# Altium integrated library Analog Devices Data Converters Analog-to-Digital Converters.IntLib: 2400 symbols (part 141 of 338)
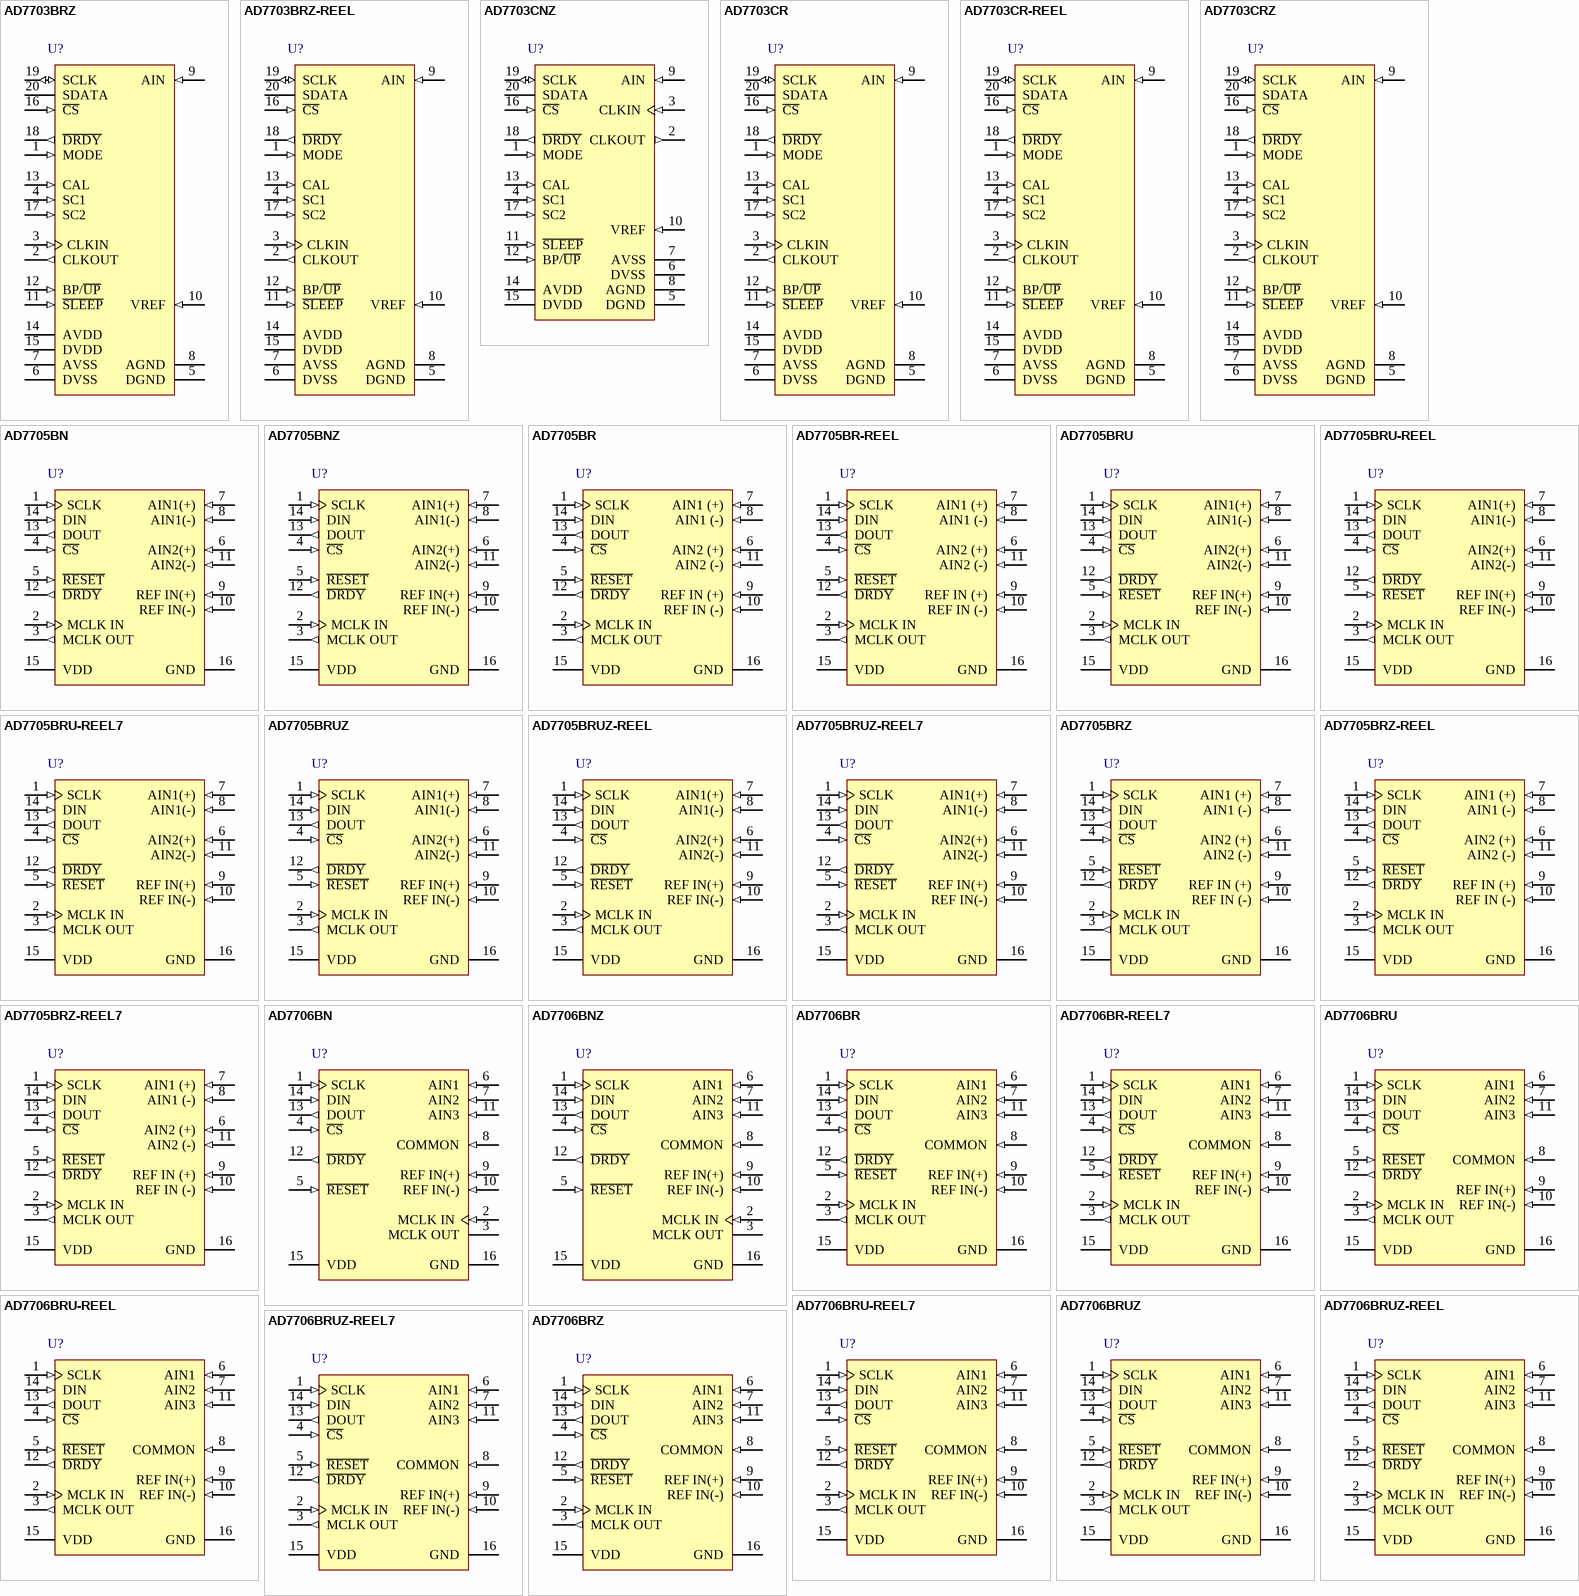
[diagram p236: symbols AD7703BRZ to AD7706BRZ]

## AD7703CNZ
designator U?
Single 20-Bit Analog-to-Digital Converter with Serial, SPI Interface, LC2MOS, 4KSPS, 0 to +70 degC, N-20, Pb-Free, Tube; Part Number: AD7703; Manufacturer: Analog Devices; Resolution (Bits): 20; Channels: 1; Throughput Rate (SPS): 4K; Interface: Ser, SPI; DatasheetVersion: Rev.E; PackageVersion: 070706-A; PackageReference: N-20; PackageDescription: 20-Lead Plastic Dual In-Line Package [PDIP] Narrow Body; RoHS: Y; Packing: Tube; Mounting Technology: Through-hole; Code_JEDEC: MS-001; ComponentLink1Description: Manufacturer URL; ComponentLink1URL: http://www.analog.com/en/index.html; ComponentLink2Description: Datasheet; ComponentLink2URL: http://www.analog.com/static/imported-files/data_sheets/AD7703.pdf; ComponentLink3Description: Package Specification; ComponentLink3URL: http://www.analog.com/static/imported-files/packages/50601349676519N_20.pdf; ComponentLink4Description: Product URL; ComponentLink4URL: http://www.analog.com/en/analog-to-digital-converters/ad-converters/ad7703/products/product.html
footprint N-20 (DIP, 20-Leads, Row Spacing 7.62mm, Pitch 2.54mm, Body 25.9x6.6mm)
pins: 1 MODE (in) "Selects the Serial Interface Mode. If MODE is tied to DGND, the Synchronous External Clocking (SEC) mode is selected. SCLK is configured as an input, and the output appears without formatting, the MSB coming first. If MODE (See Datasheet)", 2 CLKOUT (out) "Clock Output to Generate an Internal Master Clock by Connecting a Crystal between CLKOUT and CLKIN.If an external clock is used, CLKOUT is not connected.", 3 CLKIN (in) "Clock Input for External Clock.", 4 SC1 (in) "System Calibration Pins. The state of these pins, when CAL is taken high, determines the type of calibration performed.", 5 DGND (power) "Digital Ground. Ground reference for all digital signals.", 6 DVSS (power) "Digital Negative Supply, -5 V Nominal.", 7 AVSS (power) "Analog Negative Supply, -5 V Nominal.", 8 AGND (power) "Analog Ground. Ground reference for all analog signals.", 9 AIN (in) "Analog Input.", 10 VREF (in) "Voltage Reference Input, 2.5 V Nominal. This determines the value of positive full scale in the Unipolar mode and the value of both positive and negative full scale in the Bipolar mode.", 11 ~{SLEEP} (in) "Sleep Mode Pin. When this pin is taken low, the AD7703 goes into a low power mode with typically 10 µW power consumption.", 12 BP/~{UP} (in) "Bipolar/Unipolar Mode Pin. When this pin is low, the AD7703 is configured for a unipolar input range going from AGND to VREF. When Pin 12 is high, the AD7703 is configured for a bipolar input range, +/-VREF.", 13 CAL (in) "Calibration Mode Pin. When CAL is taken high for more than four cycles, the AD7703 is reset and performs a calibration cycle when CAL is brought low again. The CAL pin can also be used as a strobe to synchronize the (See Datasheet)", 14 AVDD (power) "Analog Positive Supply, 5 V Nominal.", 15 DVDD (power) "Digital Positive Supply, 5 V Nominal.", 16 ~{CS} (in) "Chip Select Input. When C\S\ is brought low, the AD7703 will begin to transmit serial data in a format determined by the state of the MODE pin.", 17 SC2 (in) "System Calibration Pins. The state of these pins, when CAL is taken high, determines the type of calibration performed.", 18 ~{DRDY} (out) "Data Ready Output. D\R\D\Y\ is low when valid data is available in the output register. It goes high after transmission of a word is completed. It also goes high for four clock cycles when a new data-word is being loaded into (See Datasheet)", 19 SCLK (io) "Serial Clock Input/Output. The SCLK pin is configured as an input or output, dependent on the type of serial data transmission that has been selected by the MODE pin. When configured as an output in the Synchronous (See Datasheet)", 20 SDATA (hiz) "Serial Data Output. The AD7703’s output data is available at this pin as a 20-bit serial word."

## AD7703CR
designator U?
Single 20-Bit Analog-to-Digital Converter with Serial, SPI Interface, LC2MOS, 4KSPS, -40 to +85 degC, RW-20, Tube; Part Number: AD7703; Manufacturer: Analog Devices; Resolution (Bits): 20; Channels: 1; Throughput Rate (SPS): 4K; Interface: Ser, SPI; DatasheetVersion: Rev.E; PackageVersion: 060706-A; PackageReference: RW-20; PackageDescription: 20-Lead Standard Small Outline Package [SOIC_W] Wide Body; RoHS: N; Packing: Tube; Mounting Technology: Surface Mount; Code_JEDEC: MS-013-AC; ComponentLink1Description: Manufacturer URL; ComponentLink1URL: http://www.analog.com/en/index.html; ComponentLink2Description: Datasheet; ComponentLink2URL: http://www.analog.com/static/imported-files/data_sheets/AD7703.pdf; ComponentLink3Description: Package Specification; ComponentLink3URL: http://www.analog.com/static/imported-files/packages/233848RW_20.pdf; ComponentLink4Description: Product URL; ComponentLink4URL: http://www.analog.com/en/analog-to-digital-converters/ad-converters/ad7703/products/product.html
footprint RW-20_N (SOIC, 20-Leads, Body 12.8x7.5mm, Pitch 1.27mm, IPC Medium Density)
footprint RW-20_L (SOIC, 20-Leads, Body 12.8x7.5mm, Pitch 1.27mm, IPC High Density)
footprint RW-20_M (SOIC, 20-Leads, Body 12.8x7.5mm, Pitch 1.27mm, IPC Low Density)
pins: 1 MODE (in) "Selects the Serial Interface Mode. If MODE is tied to DGND, the Synchronous External Clocking (SEC) mode is selected. SCLK is configured as an input, and the output appears without formatting, the MSB coming first. If MODE (See Datasheet)", 2 CLKOUT (out) "Clock Output to Generate an Internal Master Clock by Connecting a Crystal between CLKOUT and CLKIN.If an external clock is used, CLKOUT is not connected.", 3 CLKIN (in) "Clock Input for External Clock.", 4 SC1 (in) "System Calibration Pins. The state of these pins, when CAL is taken high, determines the type of calibration performed.", 5 DGND (power) "Digital Ground. Ground reference for all digital signals.", 6 DVSS (power) "Digital Negative Supply, -5 V Nominal.", 7 AVSS (power) "Analog Negative Supply, -5 V Nominal.", 8 AGND (power) "Analog Ground. Ground reference for all analog signals.", 9 AIN (in) "Analog Input.", 10 VREF (in) "Voltage Reference Input, 2.5 V Nominal. This determines the value of positive full scale in the Unipolar mode and the value of both positive and negative full scale in the Bipolar mode.", 11 ~{SLEEP} (in) "Sleep Mode Pin. When this pin is taken low, the AD7703 goes into a low power mode with typically 10 uW power consumption.", 12 BP/~{UP} (in) "Bipolar/Unipolar Mode Pin. When this pin is low, the AD7703 is configured for a unipolar input range going from AGND to VREF. When Pin 12 is high, the AD7703 is configured for a bipolar input range, +/-VREF.", 13 CAL (in) "Calibration Mode Pin. When CAL is taken high for more than four cycles, the AD7703 is reset and performs a calibration cycle when CAL is brought low again. The CAL pin can also be used as a strobe to synchronize the (See Datasheet)", 14 AVDD (power) "Analog Positive Supply, 5 V Nominal.", 15 DVDD (power) "Digital Positive Supply, 5 V Nominal.", 16 ~{CS} (in) "Chip Select Input. When C\S\ is brought low, the AD7703 will begin to transmit serial data in a format determined by the state of the MODE pin.", 17 SC2 (in) "System Calibration Pins. The state of these pins, when CAL is taken high, determines the type of calibration performed.", 18 ~{DRDY} (out) "Data Ready Output. D\R\D\Y\ is low when valid data is available in the output register. It goes high after transmission of a word is completed. It also goes high for four clock cycles when a new data-word is being loaded (See Datasheet)", 19 SCLK (io) "Serial Clock Input/Output. The SCLK pin is configured as an input or output, dependent on the type of serial data transmission that has been selected by the MODE pin. When configured as an output in the Synchronous (See Datasheet)", 20 SDATA (hiz) "Serial Data Output. The AD7703's output data is available at this pin as a 20-bit serial word."

## AD7703CR-REEL
designator U?
Single 20-Bit Analog-to-Digital Converter with Serial, SPI Interface, LC2MOS, 4KSPS, -40 to +85 degC, RW-20, Reel; Part Number: AD7703; Manufacturer: Analog Devices; Resolution (Bits): 20; Channels: 1; Throughput Rate (SPS): 4K; Interface: Ser, SPI; DatasheetVersion: Rev.E; PackageVersion: 060706-A; PackageReference: RW-20; PackageDescription: 20-Lead Standard Small Outline Package [SOIC_W] Wide Body; RoHS: N; Packing: Reel; Mounting Technology: Surface Mount; Code_JEDEC: MS-013-AC; ComponentLink1Description: Manufacturer URL; ComponentLink1URL: http://www.analog.com/en/index.html; ComponentLink2Description: Datasheet; ComponentLink2URL: http://www.analog.com/static/imported-files/data_sheets/AD7703.pdf; ComponentLink3Description: Package Specification; ComponentLink3URL: http://www.analog.com/static/imported-files/packages/233848RW_20.pdf; ComponentLink4Description: Product URL; ComponentLink4URL: http://www.analog.com/en/analog-to-digital-converters/ad-converters/ad7703/products/product.html
footprint RW-20_N (SOIC, 20-Leads, Body 12.8x7.5mm, Pitch 1.27mm, IPC Medium Density)
footprint RW-20_L (SOIC, 20-Leads, Body 12.8x7.5mm, Pitch 1.27mm, IPC High Density)
footprint RW-20_M (SOIC, 20-Leads, Body 12.8x7.5mm, Pitch 1.27mm, IPC Low Density)
pins: 1 MODE (in) "Selects the Serial Interface Mode. If MODE is tied to DGND, the Synchronous External Clocking (SEC) mode is selected. SCLK is configured as an input, and the output appears without formatting, the MSB coming first. If MODE (See Datasheet)", 2 CLKOUT (out) "Clock Output to Generate an Internal Master Clock by Connecting a Crystal between CLKOUT and CLKIN.If an external clock is used, CLKOUT is not connected.", 3 CLKIN (in) "Clock Input for External Clock.", 4 SC1 (in) "System Calibration Pins. The state of these pins, when CAL is taken high, determines the type of calibration performed.", 5 DGND (power) "Digital Ground. Ground reference for all digital signals.", 6 DVSS (power) "Digital Negative Supply, -5 V Nominal.", 7 AVSS (power) "Analog Negative Supply, -5 V Nominal.", 8 AGND (power) "Analog Ground. Ground reference for all analog signals.", 9 AIN (in) "Analog Input.", 10 VREF (in) "Voltage Reference Input, 2.5 V Nominal. This determines the value of positive full scale in the Unipolar mode and the value of both positive and negative full scale in the Bipolar mode.", 11 ~{SLEEP} (in) "Sleep Mode Pin. When this pin is taken low, the AD7703 goes into a low power mode with typically 10 uW power consumption.", 12 BP/~{UP} (in) "Bipolar/Unipolar Mode Pin. When this pin is low, the AD7703 is configured for a unipolar input range going from AGND to VREF. When Pin 12 is high, the AD7703 is configured for a bipolar input range, +/-VREF.", 13 CAL (in) "Calibration Mode Pin. When CAL is taken high for more than four cycles, the AD7703 is reset and performs a calibration cycle when CAL is brought low again. The CAL pin can also be used as a strobe to synchronize the (See Datasheet)", 14 AVDD (power) "Analog Positive Supply, 5 V Nominal.", 15 DVDD (power) "Digital Positive Supply, 5 V Nominal.", 16 ~{CS} (in) "Chip Select Input. When C\S\ is brought low, the AD7703 will begin to transmit serial data in a format determined by the state of the MODE pin.", 17 SC2 (in) "System Calibration Pins. The state of these pins, when CAL is taken high, determines the type of calibration performed.", 18 ~{DRDY} (out) "Data Ready Output. D\R\D\Y\ is low when valid data is available in the output register. It goes high after transmission of a word is completed. It also goes high for four clock cycles when a new data-word is being loaded (See Datasheet)", 19 SCLK (io) "Serial Clock Input/Output. The SCLK pin is configured as an input or output, dependent on the type of serial data transmission that has been selected by the MODE pin. When configured as an output in the Synchronous (See Datasheet)", 20 SDATA (hiz) "Serial Data Output. The AD7703's output data is available at this pin as a 20-bit serial word."

## AD7703CRZ
designator U?
Single 20-Bit Analog-to-Digital Converter with Serial, SPI Interface, LC2MOS, 4KSPS, -40 to +85 degC, RW-20, Pb-Free, Tube; Part Number: AD7703; Manufacturer: Analog Devices; Resolution (Bits): 20; Channels: 1; Throughput Rate (SPS): 4K; Interface: Ser, SPI; DatasheetVersion: Rev.E; PackageVersion: 060706-A; PackageReference: RW-20; PackageDescription: 20-Lead Standard Small Outline Package [SOIC_W] Wide Body; RoHS: Y; Packing: Tube; Mounting Technology: Surface Mount; Code_JEDEC: MS-013-AC; ComponentLink1Description: Manufacturer URL; ComponentLink1URL: http://www.analog.com/en/index.html; ComponentLink2Description: Datasheet; ComponentLink2URL: http://www.analog.com/static/imported-files/data_sheets/AD7703.pdf; ComponentLink3Description: Package Specification; ComponentLink3URL: http://www.analog.com/static/imported-files/packages/233848RW_20.pdf; ComponentLink4Description: Product URL; ComponentLink4URL: http://www.analog.com/en/analog-to-digital-converters/ad-converters/ad7703/products/product.html
footprint RW-20_N (SOIC, 20-Leads, Body 12.8x7.5mm, Pitch 1.27mm, IPC Medium Density)
footprint RW-20_L (SOIC, 20-Leads, Body 12.8x7.5mm, Pitch 1.27mm, IPC High Density)
footprint RW-20_M (SOIC, 20-Leads, Body 12.8x7.5mm, Pitch 1.27mm, IPC Low Density)
pins: 1 MODE (in) "Selects the Serial Interface Mode. If MODE is tied to DGND, the Synchronous External Clocking (SEC) mode is selected. SCLK is configured as an input, and the output appears without formatting, the MSB coming first. If MODE (See Datasheet)", 2 CLKOUT (out) "Clock Output to Generate an Internal Master Clock by Connecting a Crystal between CLKOUT and CLKIN.If an external clock is used, CLKOUT is not connected.", 3 CLKIN (in) "Clock Input for External Clock.", 4 SC1 (in) "System Calibration Pins. The state of these pins, when CAL is taken high, determines the type of calibration performed.", 5 DGND (power) "Digital Ground. Ground reference for all digital signals.", 6 DVSS (power) "Digital Negative Supply, -5 V Nominal.", 7 AVSS (power) "Analog Negative Supply, -5 V Nominal.", 8 AGND (power) "Analog Ground. Ground reference for all analog signals.", 9 AIN (in) "Analog Input.", 10 VREF (in) "Voltage Reference Input, 2.5 V Nominal. This determines the value of positive full scale in the Unipolar mode and the value of both positive and negative full scale in the Bipolar mode.", 11 ~{SLEEP} (in) "Sleep Mode Pin. When this pin is taken low, the AD7703 goes into a low power mode with typically 10 uW power consumption.", 12 BP/~{UP} (in) "Bipolar/Unipolar Mode Pin. When this pin is low, the AD7703 is configured for a unipolar input range going from AGND to VREF. When Pin 12 is high, the AD7703 is configured for a bipolar input range, +/-VREF.", 13 CAL (in) "Calibration Mode Pin. When CAL is taken high for more than four cycles, the AD7703 is reset and performs a calibration cycle when CAL is brought low again. The CAL pin can also be used as a strobe to synchronize the (See Datasheet)", 14 AVDD (power) "Analog Positive Supply, 5 V Nominal.", 15 DVDD (power) "Digital Positive Supply, 5 V Nominal.", 16 ~{CS} (in) "Chip Select Input. When C\S\ is brought low, the AD7703 will begin to transmit serial data in a format determined by the state of the MODE pin.", 17 SC2 (in) "System Calibration Pins. The state of these pins, when CAL is taken high, determines the type of calibration performed.", 18 ~{DRDY} (out) "Data Ready Output. D\R\D\Y\ is low when valid data is available in the output register. It goes high after transmission of a word is completed. It also goes high for four clock cycles when a new data-word is being loaded (See Datasheet)", 19 SCLK (io) "Serial Clock Input/Output. The SCLK pin is configured as an input or output, dependent on the type of serial data transmission that has been selected by the MODE pin. When configured as an output in the Synchronous (See Datasheet)", 20 SDATA (hiz) "Serial Data Output. The AD7703's output data is available at this pin as a 20-bit serial word."

## AD7705BN
designator U?
Dual 16-Bit Sigma-Delta Analog-to-Digital Converter with Serial, SPI Interface, 1 mW, 3 V / 5 V, 500SPS, -40 to +85 degC, N-16, Tube; Part Number: AD7705; Manufacturer: Analog Devices; Resolution (Bits): 16; Channels: 2; Throughput Rate (SPS): 500; Interface: Ser, SPI; DatasheetVersion: Rev.C; PackageVersion: 070706-A; PackageReference: N-16; PackageDescription: 16-Lead Plastic Dual In-Line Package [PDIP] Narrow Body; RoHS: N; Packing: Tube; Mounting Technology: Through-hole; Code_JEDEC: MS-001; ComponentLink1Description: Manufacturer URL; ComponentLink1URL: http://www.analog.com/en/index.html; ComponentLink2Description: Datasheet; ComponentLink2URL: http://www.analog.com/static/imported-files/data_sheets/AD7705_7706.pdf; ComponentLink3Description: Package Specification; ComponentLink3URL: http://www.analog.com/static/imported-files/packages/44768431550332N_16.pdf; ComponentLink4Description: Product URL; ComponentLink4URL: http://www.analog.com/en/analog-to-digital-converters/ad-converters/ad7705/products/product.html
footprint N-16 (DIP, 16-Leads, Row Spacing 7.62mm, Pitch 2.54mm, Body 20.1x6.6mm)
pins: 1 SCLK (in) "Serial Clock. An external serial clock is applied to the Schmitt-triggered logic input to access serial data from the AD7705/AD7706. This serial clock can be a continuous clock with all data transmitted in a continuous train (See Datasheet)", 2 MCLK IN (in) "Master Clock Signal. This can be provided in the form of a crystal/resonator or external clock. A crystal/resonator can be tied across the Pin MCLK IN and Pin MCLK OUT. Alternatively, the MCLK IN pin can be driven with a (See Datasheet)", 3 MCLK OUT (out) "When the master clock for these devices is a crystal/resonator, the crystal/resonator is connected between Pin MCLK IN and Pin MCLK OUT. If an external clock is applied to Pin MCLK IN, Pin MCLK OUT provides an inverted clock (See Datasheet)", 4 ~{CS} (in) "Chip Select. Active low logic input used to select the AD7705/AD7706. With this input hardwired low, the AD7705/AD7706 can operate in its 3-wire interface mode with Pin SCLK, Pin DIN, and Pin DOUT used to interface to the (See Datasheet)", 5 ~{RESET} (in) "Logic Input. Active low input that resets the control logic, interface logic, calibration coefficients, digital filter, and analog modulator of the parts to power-on status.", 6 AIN2(+) (in) "Positive Input of the Differential Analog Input Pair AIN2(+)/AIN2(-) for AD7705. Channel 1 for AD7706.", 7 AIN1(+) (in) "Positive Input of the Differential Analog Input Pair AIN1(+)/AIN1(-) for AD7705. Channel 2 for AD7706.", 8 AIN1(-) (in) "Negative Input of the Differential Analog Input Pair AIN1(+)/AIN1(-) for AD7705. COMMON input for AD7706 with Channel 1, Channel 2, and Channel 3 referenced to this input.", 9 REF IN(+) (in) "Reference Input. Positive input of the differential reference input to the AD7705/AD7706. The reference input is differential with the provision that REF IN(+) must be greater than REF IN(-).  REF IN(+) can lie anywhere (See Datasheet)", 10 REF IN(-) (in) "Reference Input. Negative input of the differential reference input to the AD7705/AD7706. The  REF IN(-) can lie anywhere between VDD and GND, provided that REF IN(+) is greater than REF IN(-).", 11 AIN2(-) (in) "Negative Input of the Differential Analog Input Pair AIN2(+)/AIN2(-) for AD7705. Channel 3 for AD7706.", 12 ~{DRDY} (out) "Logic Output. A logic low on this output indicates that a new output word is available from the AD7705/AD7706 data register. The D\R\D\Y\ pin returns high upon completion of a read operation of a full output word. If no data (See Datasheet)", 13 DOUT (out) "Serial Data Output. Serial data is read from the output shift register on the part. The output shift register can contain information from the setup register, communication register, clock register, or data register, (See Datasheet)", 14 DIN (in) "Serial Data Input. Serial data is written to the input shift register on the part. Data from the input shift register is transferred to the setup register, clock register, or communication register, depending on the register (See Datasheet)", 15 VDD (power) "Supply Voltage. 2.7 V to 5.25 V operation.", 16 GND (power) "Ground Reference Point for the AD7705/AD7706 Internal Circuitry."

## AD7705BNZ
designator U?
Dual 16-Bit Sigma-Delta Analog-to-Digital Converter with Serial, SPI Interface, 1 mW, 3 V / 5 V, 500SPS, -40 to +85 degC, N-16, Pb-Free, Tube; Part Number: AD7705; Manufacturer: Analog Devices; Resolution (Bits): 16; Channels: 2; Throughput Rate (SPS): 500; Interface: Ser, SPI; DatasheetVersion: Rev.C; PackageVersion: 070706-A; PackageReference: N-16; PackageDescription: 16-Lead Plastic Dual In-Line Package [PDIP] Narrow Body; RoHS: Y; Packing: Tube; Mounting Technology: Through-hole; Code_JEDEC: MS-001; ComponentLink1Description: Manufacturer URL; ComponentLink1URL: http://www.analog.com/en/index.html; ComponentLink2Description: Datasheet; ComponentLink2URL: http://www.analog.com/static/imported-files/data_sheets/AD7705_7706.pdf; ComponentLink3Description: Package Specification; ComponentLink3URL: http://www.analog.com/static/imported-files/packages/44768431550332N_16.pdf; ComponentLink4Description: Product URL; ComponentLink4URL: http://www.analog.com/en/analog-to-digital-converters/ad-converters/ad7705/products/product.html
footprint N-16 (DIP, 16-Leads, Row Spacing 7.62mm, Pitch 2.54mm, Body 20.1x6.6mm)
pins: 1 SCLK (in) "Serial Clock. An external serial clock is applied to the Schmitt-triggered logic input to access serial data from the AD7705/AD7706. This serial clock can be a continuous clock with all data transmitted in a continuous train (See Datasheet)", 2 MCLK IN (in) "Master Clock Signal. This can be provided in the form of a crystal/resonator or external clock. A crystal/resonator can be tied across the Pin MCLK IN and Pin MCLK OUT. Alternatively, the MCLK IN pin can be driven with a (See Datasheet)", 3 MCLK OUT (out) "When the master clock for these devices is a crystal/resonator, the crystal/resonator is connected between Pin MCLK IN and Pin MCLK OUT. If an external clock is applied to Pin MCLK IN, Pin MCLK OUT provides an inverted clock (See Datasheet)", 4 ~{CS} (in) "Chip Select. Active low logic input used to select the AD7705/AD7706. With this input hardwired low, the AD7705/AD7706 can operate in its 3-wire interface mode with Pin SCLK, Pin DIN, and Pin DOUT used to interface to the (See Datasheet)", 5 ~{RESET} (in) "Logic Input. Active low input that resets the control logic, interface logic, calibration coefficients, digital filter, and analog modulator of the parts to power-on status.", 6 AIN2(+) (in) "Positive Input of the Differential Analog Input Pair AIN2(+)/AIN2(-) for AD7705. Channel 1 for AD7706.", 7 AIN1(+) (in) "Positive Input of the Differential Analog Input Pair AIN1(+)/AIN1(-) for AD7705. Channel 2 for AD7706.", 8 AIN1(-) (in) "Negative Input of the Differential Analog Input Pair AIN1(+)/AIN1(-) for AD7705. COMMON input for AD7706 with Channel 1, Channel 2, and Channel 3 referenced to this input.", 9 REF IN(+) (in) "Reference Input. Positive input of the differential reference input to the AD7705/AD7706. The reference input is differential with the provision that REF IN(+) must be greater than REF IN(-).  REF IN(+) can lie anywhere (See Datasheet)", 10 REF IN(-) (in) "Reference Input. Negative input of the differential reference input to the AD7705/AD7706. The  REF IN(-) can lie anywhere between VDD and GND, provided that REF IN(+) is greater than REF IN(-).", 11 AIN2(-) (in) "Negative Input of the Differential Analog Input Pair AIN2(+)/AIN2(-) for AD7705. Channel 3 for AD7706.", 12 ~{DRDY} (out) "Logic Output. A logic low on this output indicates that a new output word is available from the AD7705/AD7706 data register. The D\R\D\Y\ pin returns high upon completion of a read operation of a full output word. If no data (See Datasheet)", 13 DOUT (out) "Serial Data Output. Serial data is read from the output shift register on the part. The output shift register can contain information from the setup register, communication register, clock register, or data register, (See Datasheet)", 14 DIN (in) "Serial Data Input. Serial data is written to the input shift register on the part. Data from the input shift register is transferred to the setup register, clock register, or communication register, depending on the register (See Datasheet)", 15 VDD (power) "Supply Voltage. 2.7 V to 5.25 V operation.", 16 GND (power) "Ground Reference Point for the AD7705/AD7706 Internal Circuitry."

## AD7705BR
designator U?
Dual 16-Bit Sigma-Delta Analog-to-Digital Converter with Serial, SPI Interface, 1 mW, 3 V / 5 V, 500SPS, -40 to +85 degC, RW-16, Tube; Part Number: AD7705; Manufacturer: Analog Devices; Resolution (Bits): 16; Channels: 2; Throughput Rate (SPS): 500; Interface: Ser, SPI; DatasheetVersion: Rev.C; PackageVersion: 032707-B; PackageReference: RW-16; PackageDescription: 16-Lead Standard Small Outline Package [SOIC_W]; RoHS: N; Packing: Tube; Mounting Technology: Surface Mount; Code_JEDEC: MS-013-AA; Code_IPC: SOIC127P1030-16; ComponentLink1Description: Manufacturer URL; ComponentLink1URL: http://www.analog.com/en/index.html; ComponentLink2Description: Datasheet; ComponentLink2URL: http://www.analog.com/static/imported-files/data_sheets/AD7705_7706.pdf; ComponentLink3Description: Package Specification; ComponentLink3URL: http://www.analog.com/static/imported-files/packages/PKG_PDF/SOIC_WIDE%20%28RW%29/RW_16.pdf; ComponentLink4Description: Product URL; ComponentLink4URL: http://www.analog.com/en/analog-to-digital-converters/ad-converters/ad7705/products/product.html
footprint RW-16_N (SOIC, 16-Leads, Body 10.3x7.5mm, Pitch 1.27mm, IPC Medium Density)
footprint RW-16_L (SOIC, 16-Leads, Body 10.3x7.5mm, Pitch 1.27mm, IPC High Density)
footprint RW-16_M (SOIC, 16-Leads, Body 10.3x7.5mm, Pitch 1.27mm, IPC Low Density)
pins: 1 SCLK (in) "Serial Clock. An external serial clock is applied to the Schmitt-triggered logic input to access serialdata from the AD7705/AD7706. This serial clock can be a continuous clock with all data transmitted ina continuous train (See Datasheet)", 2 MCLK IN (in) "Master Clock Signal. This can be provided in the form of a crystal/resonator or external clock. Acrystal/resonator can be tied across the Pin MCLK IN and Pin MCLK OUT. Alternatively, the MCLK IN pin can be driven with a (See Datasheet)", 3 MCLK OUT (out) "When the master clock for these devices is a crystal/resonator, the crystal/resonator is connected between Pin MCLK IN and Pin MCLK OUT. If an external clock is applied to Pin MCLK IN, Pin MCLK OUT provides an inverted clock (See Datasheet)", 4 ~{CS} (in) "Chip Select. Active low logic input used to select the AD7705/AD7706. With this input hardwired low, the AD7705/AD7706 can operate in its 3-wire interface mode with Pin SCLK, Pin DIN, and Pin DOUT used to interface to the (See Datasheet)", 5 ~{RESET} (in) "Logic Input. Active low input that resets the control logic, interface logic, calibration coefficients, digital filter, and analog modulator of the parts to power-on status", 6 AIN2 (+) (in) "Positive Input of the Differential Analog Input Pair AIN2(+)/AIN2(-) for AD7705. Channel 1 for AD7706.", 7 AIN1 (+) (in) "Positive Input of the Differential Analog Input Pair AIN1(+)/AIN1(-) for AD7705. Channel 2 for AD7706.", 8 AIN1 (-) (in) "Negative Input of the Differential Analog Input Pair AIN1(+)/AIN1(-) for AD7705. COMMON input for AD7706 with Channel 1, Channel 2, and Channel 3 referenced to this input", 9 REF IN (+) (in) "Reference Input. Positive input of the differential reference input to the AD7705/AD7706. The reference input is differential with the provision that REF IN(+) must be greater than REF IN(-) REF IN(+) can lie anywhere (See Datasheet)", 10 REF IN (-) (in) "Reference Input. Negative input of the differential reference input to the AD7705/AD7706. The REF IN(-) can lie anywhere between VDD and GND, provided that REF IN(+) is greater than REF IN(-).", 11 AIN2 (-) (in) "Negative Input of the Differential Analog Input Pair AIN2(+)/AIN2(-) for AD7705. Channel 3 for AD7706.", 12 ~{DRDY} (out) "Logic Output. A logic low on this output indicates that a new output word is available from the AD7705/AD7706 data register. The D\R\D\Y\ pin returns high upon completion of a read operation of a full output word. If no data (See Datasheet)", 13 DOUT (out) "Serial Data Output. Serial data is read from the output shift register on the part. The output shift register can contain information from the setup register, communication register, clock register, or data register, (See Datasheet)", 14 DIN (in) "Serial Data Input. Serial data is written to the input shift register on the part. Data from the input shift register is transferred to the setup register, clock register, or communication register, depending on  the (See Datasheet)", 15 VDD (power) "Supply Voltage. 2.7 V to 5.25 V operation.", 16 GND (power) "Ground Reference Point for the AD7705/AD7706 Internal Circuitry"

## AD7705BR-REEL
designator U?
Dual 16-Bit Sigma-Delta Analog-to-Digital Converter with Serial, SPI Interface, 1 mW, 3 V / 5 V, 500SPS, -40 to +85 degC, RW-16, Reel; Part Number: AD7705; Manufacturer: Analog Devices; Resolution (Bits): 16; Channels: 2; Throughput Rate (SPS): 500; Interface: Ser, SPI; DatasheetVersion: Rev.C; PackageVersion: 032707-B; PackageReference: RW-16; PackageDescription: 16-Lead Standard Small Outline Package [SOIC_W]; RoHS: N; Packing: Reel; Mounting Technology: Surface Mount; Code_JEDEC: MS-013-AA; Code_IPC: SOIC127P1030-16; ComponentLink1Description: Manufacturer URL; ComponentLink1URL: http://www.analog.com/en/index.html; ComponentLink2Description: Datasheet; ComponentLink2URL: http://www.analog.com/static/imported-files/data_sheets/AD7705_7706.pdf; ComponentLink3Description: Package Specification; ComponentLink3URL: http://www.analog.com/static/imported-files/packages/PKG_PDF/SOIC_WIDE%20%28RW%29/RW_16.pdf; ComponentLink4Description: Product URL; ComponentLink4URL: http://www.analog.com/en/analog-to-digital-converters/ad-converters/ad7705/products/product.html
footprint RW-16_N (SOIC, 16-Leads, Body 10.3x7.5mm, Pitch 1.27mm, IPC Medium Density)
footprint RW-16_L (SOIC, 16-Leads, Body 10.3x7.5mm, Pitch 1.27mm, IPC High Density)
footprint RW-16_M (SOIC, 16-Leads, Body 10.3x7.5mm, Pitch 1.27mm, IPC Low Density)
pins: 1 SCLK (in) "Serial Clock. An external serial clock is applied to the Schmitt-triggered logic input to access serialdata from the AD7705/AD7706. This serial clock can be a continuous clock with all data transmitted ina continuous train (See Datasheet)", 2 MCLK IN (in) "Master Clock Signal. This can be provided in the form of a crystal/resonator or external clock. Acrystal/resonator can be tied across the Pin MCLK IN and Pin MCLK OUT. Alternatively, the MCLK IN pin can be driven with a (See Datasheet)", 3 MCLK OUT (out) "When the master clock for these devices is a crystal/resonator, the crystal/resonator is connected between Pin MCLK IN and Pin MCLK OUT. If an external clock is applied to Pin MCLK IN, Pin MCLK OUT provides an inverted clock (See Datasheet)", 4 ~{CS} (in) "Chip Select. Active low logic input used to select the AD7705/AD7706. With this input hardwired low, the AD7705/AD7706 can operate in its 3-wire interface mode with Pin SCLK, Pin DIN, and Pin DOUT used to interface to the (See Datasheet)", 5 ~{RESET} (in) "Logic Input. Active low input that resets the control logic, interface logic, calibration coefficients, digital filter, and analog modulator of the parts to power-on status", 6 AIN2 (+) (in) "Positive Input of the Differential Analog Input Pair AIN2(+)/AIN2(-) for AD7705. Channel 1 for AD7706.", 7 AIN1 (+) (in) "Positive Input of the Differential Analog Input Pair AIN1(+)/AIN1(-) for AD7705. Channel 2 for AD7706.", 8 AIN1 (-) (in) "Negative Input of the Differential Analog Input Pair AIN1(+)/AIN1(-) for AD7705. COMMON input for AD7706 with Channel 1, Channel 2, and Channel 3 referenced to this input", 9 REF IN (+) (in) "Reference Input. Positive input of the differential reference input to the AD7705/AD7706. The reference input is differential with the provision that REF IN(+) must be greater than REF IN(-) REF IN(+) can lie anywhere (See Datasheet)", 10 REF IN (-) (in) "Reference Input. Negative input of the differential reference input to the AD7705/AD7706. The REF IN(-) can lie anywhere between VDD and GND, provided that REF IN(+) is greater than REF IN(-).", 11 AIN2 (-) (in) "Negative Input of the Differential Analog Input Pair AIN2(+)/AIN2(-) for AD7705. Channel 3 for AD7706.", 12 ~{DRDY} (out) "Logic Output. A logic low on this output indicates that a new output word is available from the AD7705/AD7706 data register. The D\R\D\Y\ pin returns high upon completion of a read operation of a full output word. If no data (See Datasheet)", 13 DOUT (out) "Serial Data Output. Serial data is read from the output shift register on the part. The output shift register can contain information from the setup register, communication register, clock register, or data register, (See Datasheet)", 14 DIN (in) "Serial Data Input. Serial data is written to the input shift register on the part. Data from the input shift register is transferred to the setup register, clock register, or communication register, depending on  the (See Datasheet)", 15 VDD (power) "Supply Voltage. 2.7 V to 5.25 V operation.", 16 GND (power) "Ground Reference Point for the AD7705/AD7706 Internal Circuitry"

## AD7705BRU
designator U?
Dual 16-Bit Sigma-Delta Analog-to-Digital Converter with Serial, SPI Interface, 1 mW, 3 V / 5 V, 500SPS, -40 to +85 degC, RU-16, Tube; Part Number: AD7705; Manufacturer: Analog Devices; Resolution (Bits): 16; Channels: 2; Throughput Rate (SPS): 500; Interface: Ser, SPI; DatasheetVersion: Rev.C; PackageVersion: Nov-2002; PackageReference: RU-16; PackageDescription: 16-Lead Thin Shrink Small Outline Package [TSSOP]; RoHS: N; Packing: Tube; Mounting Technology: Surface Mount; Code_JEDEC: MO-153-AB; ComponentLink1Description: Manufacturer URL; ComponentLink1URL: http://www.analog.com/en/index.html; ComponentLink2Description: Datasheet; ComponentLink2URL: http://www.analog.com/static/imported-files/data_sheets/AD7705_7706.pdf; ComponentLink3Description: Package Specification; ComponentLink3URL: http://www.analog.com/static/imported-files/packages/36244347913743854010197452789RU16.pdf; ComponentLink4Description: Product URL; ComponentLink4URL: http://www.analog.com/en/analog-to-digital-converters/ad-converters/ad7705/products/product.html
footprint RU-16_N (TSOP, 16-Leads, Body 5x4.4mm, Pitch 0.65mm, IPC Medium Density)
footprint RU-16_L (TSOP, 16-Leads, Body 5x4.4mm, Pitch 0.65mm, IPC High Density)
footprint RU-16_M (TSOP, 16-Leads, Body 5x4.4mm, Pitch 0.65mm, IPC Low Density)
pins: 1 SCLK (in) "Serial Clock. An external serial clock is applied to the Schmitt-triggered logic input to access serial data from the AD7705/AD7706. This serial clock can be a continuous clock with all data transmitted in a continuous train (See Datasheet)", 2 MCLK IN (in) "Master Clock Signal. This can be provided in the form of a crystal/resonator or external clock. A crystal/resonator can be tied across the Pin MCLK IN and Pin MCLK OUT. Alternatively, the MCLK IN pin can be driven with a (See Datasheet)", 3 MCLK OUT (out) "When the master clock for these devices is a crystal/resonator, the crystal/resonator is connected between Pin MCLK IN and Pin MCLK OUT. If an external clock is applied to Pin MCLK IN, Pin MCLK OUT provides an inverted clock (See Datasheet)", 4 ~{CS} (in) "Chip Select. Active low logic input used to select the AD7705/AD7706. With this input hardwired low, the AD7705/AD7706 can operate in its 3-wire interface mode with Pin SCLK, Pin DIN, and Pin DOUT used to interface to the (See Datasheet)", 5 ~{RESET} (in) "Logic Input. Active low input that resets the control logic, interface logic, calibration coefficients, digital filter, and analog modulator of the parts to power-on status.", 6 AIN2(+) (in) "Positive Input of the Differential Analog Input Pair AIN2(+)/AIN2(-) for AD7705. Channel 1 for AD7706.", 7 AIN1(+) (in) "Positive Input of the Differential Analog Input Pair AIN1(+)/AIN1(-) for AD7705. Channel 2 for AD7706.", 8 AIN1(-) (in) "Negative Input of the Differential Analog Input Pair AIN1(+)/AIN1(-) for AD7705. COMMON input for AD7706 with Channel 1, Channel 2, and Channel 3 referenced to this input.", 9 REF IN(+) (in) "Reference Input. Positive input of the differential reference input to the AD7705/AD7706. The reference input is differential with the provision that REF IN(+) must be greater than REF IN(-). REF IN(+) can lie anywhere (See Datasheet)", 10 REF IN(-) (in) "Reference Input. Negative input of the differential reference input to the AD7705/AD7706. The REF IN(-) can lie anywhere between VDD and GND, provided that REF IN(+) is greater than REF IN(-).", 11 AIN2(-) (in) "Negative Input of the Differential Analog Input Pair AIN2(+)/AIN2(-) for AD7705. Channel 3 for AD7706.", 12 ~{DRDY} (out) "Logic Output. A logic low on this output indicates that a new output word is available from the AD7705/AD7706 data register. The D\R\D\Y\ pin returns high upon completion of a read operation of a full output word. If no data (See Datasheet)", 13 DOUT (out) "Serial Data Output. Serial data is read from the output shift register on the part. The output shift register can contain information from the setup register, communication register, clock register, or data register, (See Datasheet)", 14 DIN (in) "Serial Data Input. Serial data is written to the input shift register on the part. Data from the input shift register is transferred to the setup register, clock register, or communication register, depending on the register (See Datasheet)", 15 VDD (power) "Supply Voltage. 2.7 V to 5.25 V operation.", 16 GND (power) "Ground Reference Point for the AD7705/AD7706 Internal Circuitry."

## AD7705BRU-REEL
designator U?
Dual 16-Bit Sigma-Delta Analog-to-Digital Converter with Serial, SPI Interface, 1 mW, 3 V / 5 V, 500SPS, -40 to +85 degC, RU-16, Reel; Part Number: AD7705; Manufacturer: Analog Devices; Resolution (Bits): 16; Channels: 2; Throughput Rate (SPS): 500; Interface: Ser, SPI; DatasheetVersion: Rev.C; PackageVersion: Nov-2002; PackageReference: RU-16; PackageDescription: 16-Lead Thin Shrink Small Outline Package [TSSOP]; RoHS: N; Packing: Reel; Mounting Technology: Surface Mount; Code_JEDEC: MO-153-AB; ComponentLink1Description: Manufacturer URL; ComponentLink1URL: http://www.analog.com/en/index.html; ComponentLink2Description: Datasheet; ComponentLink2URL: http://www.analog.com/static/imported-files/data_sheets/AD7705_7706.pdf; ComponentLink3Description: Package Specification; ComponentLink3URL: http://www.analog.com/static/imported-files/packages/36244347913743854010197452789RU16.pdf; ComponentLink4Description: Product URL; ComponentLink4URL: http://www.analog.com/en/analog-to-digital-converters/ad-converters/ad7705/products/product.html
footprint RU-16_N (TSOP, 16-Leads, Body 5x4.4mm, Pitch 0.65mm, IPC Medium Density)
footprint RU-16_L (TSOP, 16-Leads, Body 5x4.4mm, Pitch 0.65mm, IPC High Density)
footprint RU-16_M (TSOP, 16-Leads, Body 5x4.4mm, Pitch 0.65mm, IPC Low Density)
pins: 1 SCLK (in) "Serial Clock. An external serial clock is applied to the Schmitt-triggered logic input to access serial data from the AD7705/AD7706. This serial clock can be a continuous clock with all data transmitted in a continuous train (See Datasheet)", 2 MCLK IN (in) "Master Clock Signal. This can be provided in the form of a crystal/resonator or external clock. A crystal/resonator can be tied across the Pin MCLK IN and Pin MCLK OUT. Alternatively, the MCLK IN pin can be driven with a (See Datasheet)", 3 MCLK OUT (out) "When the master clock for these devices is a crystal/resonator, the crystal/resonator is connected between Pin MCLK IN and Pin MCLK OUT. If an external clock is applied to Pin MCLK IN, Pin MCLK OUT provides an inverted clock (See Datasheet)", 4 ~{CS} (in) "Chip Select. Active low logic input used to select the AD7705/AD7706. With this input hardwired low, the AD7705/AD7706 can operate in its 3-wire interface mode with Pin SCLK, Pin DIN, and Pin DOUT used to interface to the (See Datasheet)", 5 ~{RESET} (in) "Logic Input. Active low input that resets the control logic, interface logic, calibration coefficients, digital filter, and analog modulator of the parts to power-on status.", 6 AIN2(+) (in) "Positive Input of the Differential Analog Input Pair AIN2(+)/AIN2(-) for AD7705. Channel 1 for AD7706.", 7 AIN1(+) (in) "Positive Input of the Differential Analog Input Pair AIN1(+)/AIN1(-) for AD7705. Channel 2 for AD7706.", 8 AIN1(-) (in) "Negative Input of the Differential Analog Input Pair AIN1(+)/AIN1(-) for AD7705. COMMON input for AD7706 with Channel 1, Channel 2, and Channel 3 referenced to this input.", 9 REF IN(+) (in) "Reference Input. Positive input of the differential reference input to the AD7705/AD7706. The reference input is differential with the provision that REF IN(+) must be greater than REF IN(-). REF IN(+) can lie anywhere (See Datasheet)", 10 REF IN(-) (in) "Reference Input. Negative input of the differential reference input to the AD7705/AD7706. The REF IN(-) can lie anywhere between VDD and GND, provided that REF IN(+) is greater than REF IN(-).", 11 AIN2(-) (in) "Negative Input of the Differential Analog Input Pair AIN2(+)/AIN2(-) for AD7705. Channel 3 for AD7706.", 12 ~{DRDY} (out) "Logic Output. A logic low on this output indicates that a new output word is available from the AD7705/AD7706 data register. The D\R\D\Y\ pin returns high upon completion of a read operation of a full output word. If no data (See Datasheet)", 13 DOUT (out) "Serial Data Output. Serial data is read from the output shift register on the part. The output shift register can contain information from the setup register, communication register, clock register, or data register, (See Datasheet)", 14 DIN (in) "Serial Data Input. Serial data is written to the input shift register on the part. Data from the input shift register is transferred to the setup register, clock register, or communication register, depending on the register (See Datasheet)", 15 VDD (power) "Supply Voltage. 2.7 V to 5.25 V operation.", 16 GND (power) "Ground Reference Point for the AD7705/AD7706 Internal Circuitry."

## AD7705BRU-REEL7
designator U?
Dual 16-Bit Sigma-Delta Analog-to-Digital Converter with Serial, SPI Interface, 1 mW, 3 V / 5 V, 500SPS, -40 to +85 degC, RU-16, Reel; Part Number: AD7705; Manufacturer: Analog Devices; Resolution (Bits): 16; Channels: 2; Throughput Rate (SPS): 500; Interface: Ser, SPI; DatasheetVersion: Rev.C; PackageVersion: Nov-2002; PackageReference: RU-16; PackageDescription: 16-Lead Thin Shrink Small Outline Package [TSSOP]; RoHS: N; Packing: Reel; Mounting Technology: Surface Mount; Code_JEDEC: MO-153-AB; ComponentLink1Description: Manufacturer URL; ComponentLink1URL: http://www.analog.com/en/index.html; ComponentLink2Description: Datasheet; ComponentLink2URL: http://www.analog.com/static/imported-files/data_sheets/AD7705_7706.pdf; ComponentLink3Description: Package Specification; ComponentLink3URL: http://www.analog.com/static/imported-files/packages/36244347913743854010197452789RU16.pdf; ComponentLink4Description: Product URL; ComponentLink4URL: http://www.analog.com/en/analog-to-digital-converters/ad-converters/ad7705/products/product.html
footprint RU-16_N (TSOP, 16-Leads, Body 5x4.4mm, Pitch 0.65mm, IPC Medium Density)
footprint RU-16_L (TSOP, 16-Leads, Body 5x4.4mm, Pitch 0.65mm, IPC High Density)
footprint RU-16_M (TSOP, 16-Leads, Body 5x4.4mm, Pitch 0.65mm, IPC Low Density)
pins: 1 SCLK (in) "Serial Clock. An external serial clock is applied to the Schmitt-triggered logic input to access serial data from the AD7705/AD7706. This serial clock can be a continuous clock with all data transmitted in a continuous train (See Datasheet)", 2 MCLK IN (in) "Master Clock Signal. This can be provided in the form of a crystal/resonator or external clock. A crystal/resonator can be tied across the Pin MCLK IN and Pin MCLK OUT. Alternatively, the MCLK IN pin can be driven with a (See Datasheet)", 3 MCLK OUT (out) "When the master clock for these devices is a crystal/resonator, the crystal/resonator is connected between Pin MCLK IN and Pin MCLK OUT. If an external clock is applied to Pin MCLK IN, Pin MCLK OUT provides an inverted clock (See Datasheet)", 4 ~{CS} (in) "Chip Select. Active low logic input used to select the AD7705/AD7706. With this input hardwired low, the AD7705/AD7706 can operate in its 3-wire interface mode with Pin SCLK, Pin DIN, and Pin DOUT used to interface to the (See Datasheet)", 5 ~{RESET} (in) "Logic Input. Active low input that resets the control logic, interface logic, calibration coefficients, digital filter, and analog modulator of the parts to power-on status.", 6 AIN2(+) (in) "Positive Input of the Differential Analog Input Pair AIN2(+)/AIN2(-) for AD7705. Channel 1 for AD7706.", 7 AIN1(+) (in) "Positive Input of the Differential Analog Input Pair AIN1(+)/AIN1(-) for AD7705. Channel 2 for AD7706.", 8 AIN1(-) (in) "Negative Input of the Differential Analog Input Pair AIN1(+)/AIN1(-) for AD7705. COMMON input for AD7706 with Channel 1, Channel 2, and Channel 3 referenced to this input.", 9 REF IN(+) (in) "Reference Input. Positive input of the differential reference input to the AD7705/AD7706. The reference input is differential with the provision that REF IN(+) must be greater than REF IN(-). REF IN(+) can lie anywhere (See Datasheet)", 10 REF IN(-) (in) "Reference Input. Negative input of the differential reference input to the AD7705/AD7706. The REF IN(-) can lie anywhere between VDD and GND, provided that REF IN(+) is greater than REF IN(-).", 11 AIN2(-) (in) "Negative Input of the Differential Analog Input Pair AIN2(+)/AIN2(-) for AD7705. Channel 3 for AD7706.", 12 ~{DRDY} (out) "Logic Output. A logic low on this output indicates that a new output word is available from the AD7705/AD7706 data register. The D\R\D\Y\ pin returns high upon completion of a read operation of a full output word. If no data (See Datasheet)", 13 DOUT (out) "Serial Data Output. Serial data is read from the output shift register on the part. The output shift register can contain information from the setup register, communication register, clock register, or data register, (See Datasheet)", 14 DIN (in) "Serial Data Input. Serial data is written to the input shift register on the part. Data from the input shift register is transferred to the setup register, clock register, or communication register, depending on the register (See Datasheet)", 15 VDD (power) "Supply Voltage. 2.7 V to 5.25 V operation.", 16 GND (power) "Ground Reference Point for the AD7705/AD7706 Internal Circuitry."